# EAGLE library part P-12073_ULO-ZS431-14P1G (library 01)
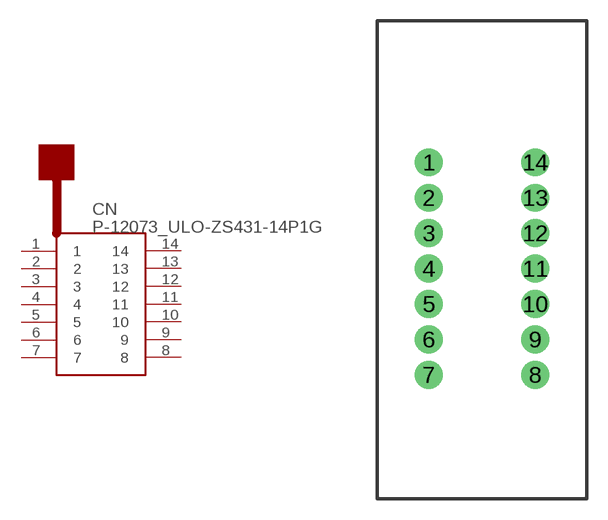
[diagram p2: symbol with the pads of ULO-ZS431-14P1G; footprint ULO-ZS431-14P1G]

Designator prefix CN

## P-12073_ULO-ZS431-14P1G  [ULO-ZS431-14P1G]
1  1
2  2
3  3
4  4
5  5
6  6
7  7
8  8
9  9
10  10
11  11
12  12
13  13
14  14

## Footprint ULO-ZS431-14P1G (pad centres in mm)
drill 1 pad 2: 1 -3.81,7.62; 2 -3.81,5.08; 3 -3.81,2.54; 4 -3.81,0; 5 -3.81,-2.54; 6 -3.81,-5.08; 7 -3.81,-7.62; 8 3.81,-7.62; 9 3.81,-5.08; 10 3.81,-2.54; 11 3.81,0; 12 3.81,2.54; 13 3.81,5.08; 14 3.81,7.62